# Altium schematic symbol library R3k57.SchLib: 1 symbol
Pins are listed as number, name and electrical type; pins without a type are passive.

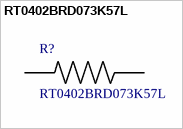
[diagram p0: symbol RT0402BRD073K57L]

## RT0402BRD073K57L
designator R?
SnapEDA_Link: https://www.snapeda.com/parts/RT0402BRD073K57L/Yageo/view-part/?ref=snap; Check_prices: https://www.snapeda.com/parts/RT0402BRD073K57L/Yageo/view-part/?ref=eda; Value: *; LCSC Part Number: C852766
footprint *RESC1005X35N
pins: 1, 2